# Altium schematic symbol library AOD409.SchLib: 1 symbol
Pins are listed as number, name and electrical type; pins without a type are passive.

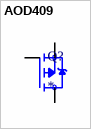
[diagram p0: symbol AOD409]

## AOD409
designator Q?
P-Channel 60V 26A (Tc) 2.5W (Ta), 60W (Tc) Surface Mount TO-252, (D-Pak); MF: Alpha &; MP: AOD409; SnapEDA_Link: https://www.snapeda.com/parts/AOD409/Alpha/view-part/?ref=snap; Package: TO-252 Alpha &amp; Omega Semiconductor; Value: *; Check_prices: https://www.snapeda.com/parts/AOD409/Alpha/view-part/?ref=eda
footprint TO252
pins: 1 G, 2 S, 3 D